# EAGLE library part LTC4121 (library BaseApp)
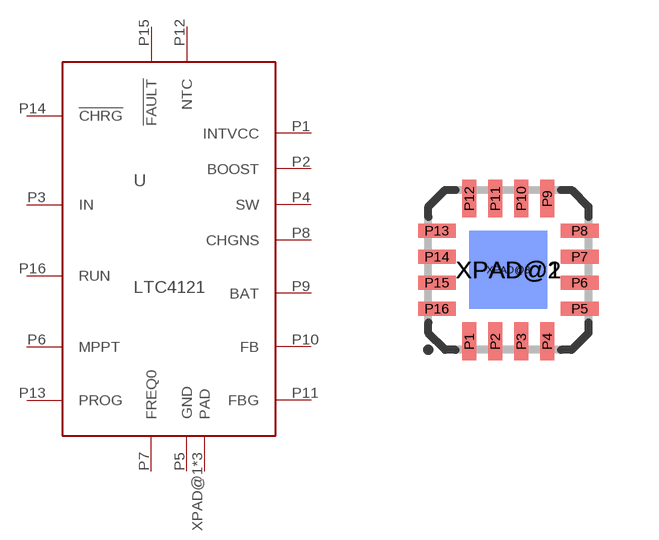
[diagram p138: symbol with the pads of 16QFN-4/4; footprint 16QFN-4/4]

Designator prefix -

## LTC4121  [16QFN-4/4]
P1  INTVCC
P2  BOOST
P3  IN
P4  SW
P5  GND
P6  MPPT
P7  FREQ0
P8  CHGNS
P9  BAT
P10  FB
P11  FBG
P12  NTC
P13  PROG
P14  !CHRG
P15  !FAULT
P16  RUN
XPAD@1  PAD
XPAD@2  PAD
XPAD@3  PAD

## Footprint 16QFN-4/4 (pad centres in mm)
smd 0.35 x 0.95: P1 -0.975,-1.785; P2 -0.325,-1.785; P3 0.325,-1.785; P4 0.975,-1.785; P9 0.975,1.785; P10 0.325,1.785; P11 -0.325,1.785; P12 -0.975,1.785
smd 0.95 x 0.35: P5 1.785,-0.975; P6 1.785,-0.325; P7 1.785,0.325; P8 1.785,0.975; P13 -1.785,0.975; P14 -1.785,0.325; P15 -1.785,-0.325; P16 -1.785,-0.975
smd 1.95 x 1.95: XPAD@1 0,0
smd 1.95 x 1.95 bottom: XPAD@2 0,0
drill 0.305: XPAD@3 0,0